# EAGLE library part BTT6030-2ERA (library PROFET - Infineon)
BTT6030-2ERA SOIC127P600X115-15N-V1 Dual Channel Smart High-Side Power Switch
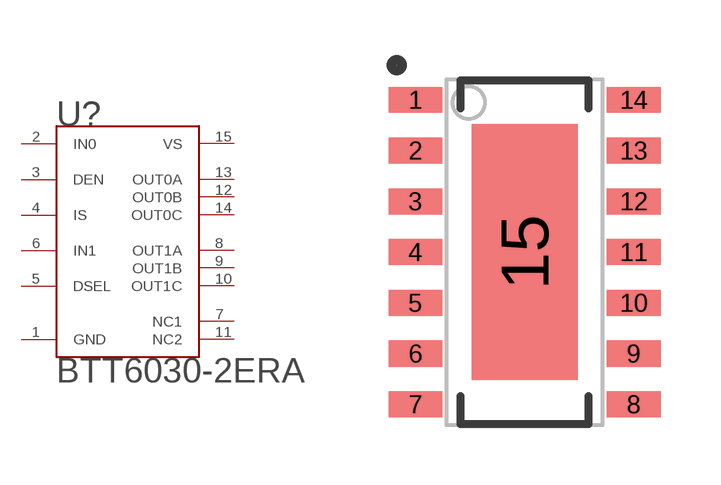
[diagram p19: symbol with the pads of SOIC127P600X115-15N-V1; footprint SOIC127P600X115-15N-V1]

Designator prefix U?

## BTT6030-2ERA  [SOIC127P600X115-15N-V1]
1  GND  pwr
2  IN0  in
3  DEN  in
4  IS  out
5  DSEL  in
6  IN1  in
7  NC1  pas
8  OUT1A  out
9  OUT1B  out
10  OUT1C  out
11  NC2  pas
12  OUT0B  out
13  OUT0A  out
14  OUT0C  out
15  VS  pwr

## Footprint SOIC127P600X115-15N-V1 (pad centres in mm)
Original name SOIC127P600X115-15N-V1 Max Component Height - 1.15mm
smd 1.34 x 0.65: 1 -2.73,3.81; 2 -2.73,2.54; 3 -2.73,1.27; 4 -2.73,0; 5 -2.73,-1.27; 6 -2.73,-2.54; 7 -2.73,-3.81; 8 2.73,-3.81; 9 2.73,-2.54; 10 2.73,-1.27; 11 2.73,0; 12 2.73,1.27; 13 2.73,2.54; 14 2.73,3.81
smd 2.65 x 6.4: 15 0,0